# EAGLE library part FFC_MOLEX_0.5MM (library PiezoFFC)
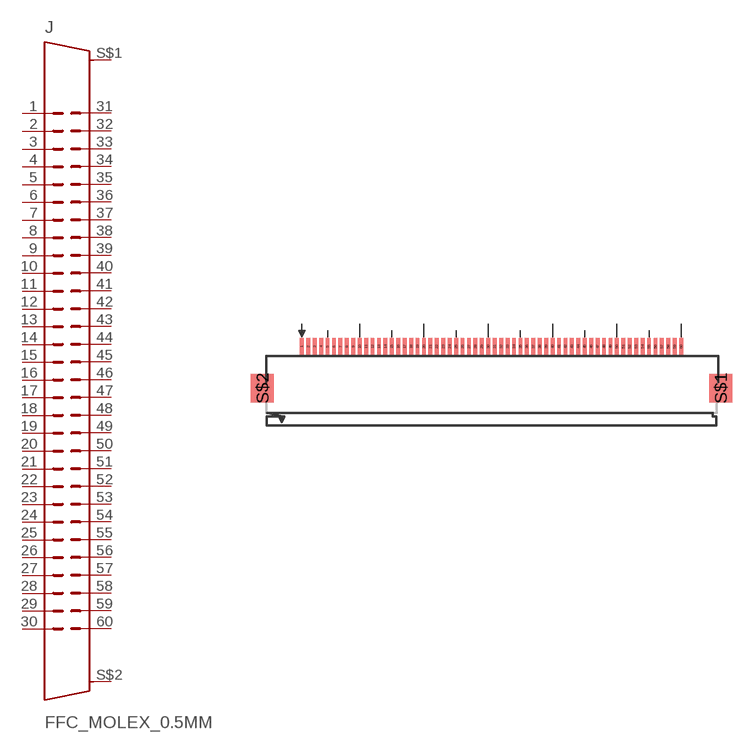
[diagram p14: symbol with the pads of FFC-60P_0.5_MOLEX_505110-6091; footprint FFC-60P_0.5_MOLEX_505110-6091]

Designator prefix J

## FFC_MOLEX_0.5MM  [FFC-60P_0.5_MOLEX_505110-6091]
1  3  pas
2  4  pas
3  5  pas
4  6  pas
5  7  pas
6  8  pas
7  9  pas
8  10  pas
9  11  pas
10  12  pas
11  13  pas
12  14  pas
13  15  pas
14  16  pas
15  17  pas
16  18  pas
17  19  pas
18  20  pas
19  21  pas
20  22  pas
21  23  pas
22  24  pas
23  25  pas
24  26  pas
25  27  pas
26  28  pas
27  29  pas
28  30  pas
29  31  pas
30  32  pas
31  37  pas
32  38  pas
33  39  pas
34  40  pas
35  41  pas
36  42  pas
37  43  pas
38  44  pas
39  45  pas
40  46  pas
41  47  pas
42  48  pas
43  49  pas
44  50  pas
45  51  pas
46  52  pas
47  53  pas
48  54  pas
49  55  pas
50  56  pas
51  57  pas
52  58  pas
53  59  pas
54  60  pas
55  61  pas
56  62  pas
57  63  pas
58  64  pas
59  65  pas
60  66  pas
S$1  S  pas
S$2  S  pas

## Footprint FFC-60P_0.5_MOLEX_505110-6091 (pad centres in mm)
0.5mm Pitch Connectors For FPC/FFC Source: Data sheet <http://www.hirose.co.jp/cataloge_hp/e58605370.pdf>
smd 0.3 x 1.3: 1 -14.75,3.25; 2 -14.25,3.25; 3 -13.75,3.25; 4 -13.25,3.25; 5 -12.75,3.25; 6 -12.25,3.25; 7 -11.75,3.25; 8 -11.25,3.25; 9 -10.75,3.25; 10 -10.25,3.25; 11 -9.75,3.25; 12 -9.25,3.25; 13 -8.75,3.25; 14 -8.25,3.25; 15 -7.75,3.25; 16 -7.25,3.25; 17 -6.75,3.25; 18 -6.25,3.25; 19 -5.75,3.25; 20 -5.25,3.25; 21 -4.75,3.25; 22 -4.25,3.25; 23 -3.75,3.25; 24 -3.25,3.25; 25 -2.75,3.25; 26 -2.25,3.25; 27 -1.75,3.25; 28 -1.25,3.25; 29 -0.75,3.25; 30 -0.25,3.25; 31 0.25,3.25; 32 0.75,3.25; 33 1.25,3.25; 34 1.75,3.25; 35 2.25,3.25; 36 2.75,3.25; 37 3.25,3.25; 38 3.75,3.25; 39 4.25,3.25; 40 4.75,3.25; 41 5.25,3.25; 42 5.75,3.25; 43 6.25,3.25; 44 6.75,3.25; 45 7.25,3.25; 46 7.75,3.25; 47 8.25,3.25; 48 8.75,3.25; 49 9.25,3.25; 50 9.75,3.25; 51 10.25,3.25; 52 10.75,3.25; 53 11.25,3.25; 54 11.75,3.25; 55 12.25,3.25; 56 12.75,3.25; 57 13.25,3.25; 58 13.75,3.25; 59 14.25,3.25; 60 14.75,3.25
smd 1.8 x 2.2: S$1 17.821,0; S$2 -17.821,0